# Altium footprint library robby.PcbLib: 21 footprints (part 1 of 2)
Each footprint in its own frame and in the unit in brackets; x right, y up, seen from the top. Pads: shape width x height; smd on the part's side, far side on the other; paste and mask are expansions set on the pad; w line width, h text height; cw(c..) or ccw(c..) is an arc to the next point about the centre after c.
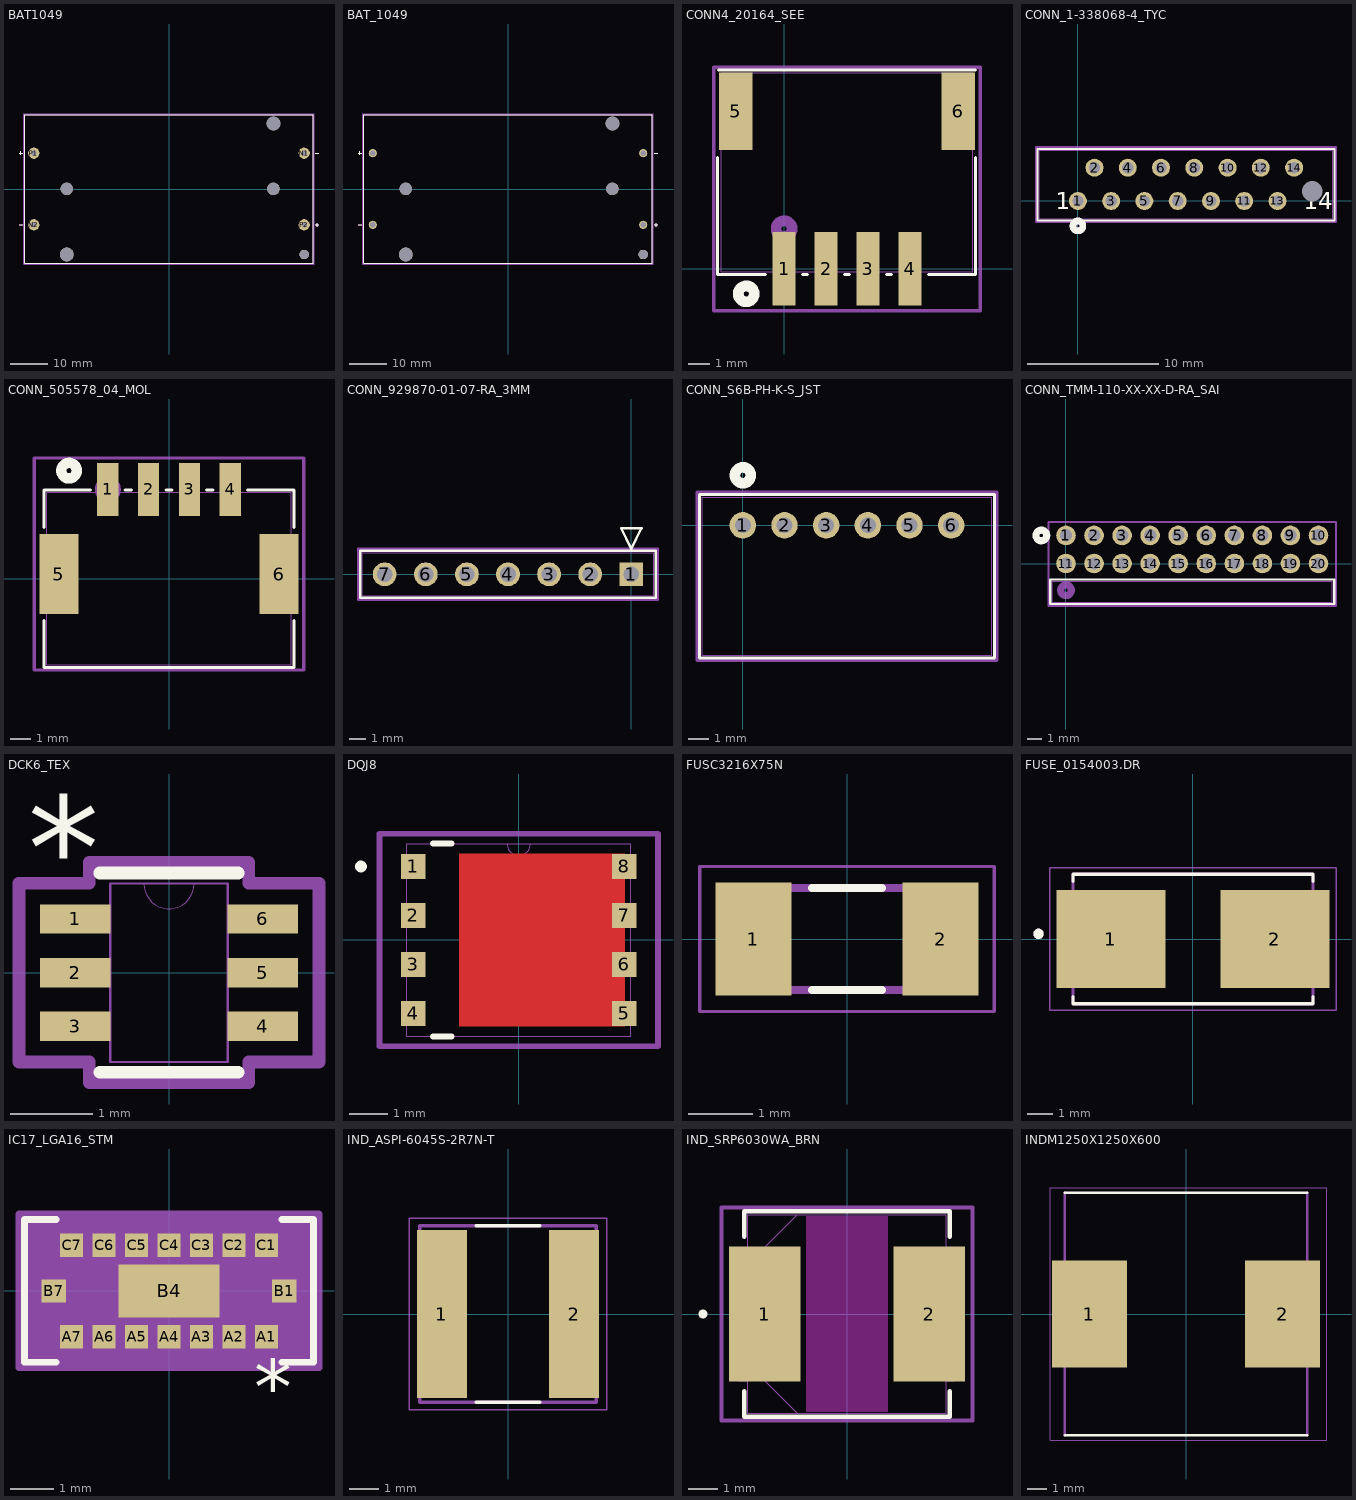
[diagram p0: the footprints below, top view; thin cyan lines are the x and y axes]

## BAT1049 [mm]
height 15.1
pads (9):
  round 3 hole 1.45: N1(36.11,9.565) N2(-36.11,-9.565) P1(-36.11,9.565) P2(36.11,-9.565)
  round 3.68 hole 3.68 unplated: ""(-27.31,-17.5) ""(27.89,17.5)
  round 3.31 hole 3.31 unplated: ""(-27.31,0.015) ""(27.89,0.015)
  round 2.51 hole 2.51 unplated: ""(36.11,-17.5)
Top Overlay:
  lines w0.127: -40.065,-9.565 -39.065,-9.565 ; -40.065,9.605 -39.065,9.605 ; -39.565,9.105 -39.565,10.105 ; 39.065,-9.605 40.065,-9.605 ; 39.065,9.565 40.065,9.565 ; 39.565,-10.105 39.565,-9.105 ; -38.53,-19.89 38.53,-19.89 38.53,19.89 -38.53,19.89 -38.53,-19.89
Mechanical 13:
  lines w0.127: -40.065,-9.565 -39.065,-9.565 ; -40.065,9.605 -39.065,9.605 ; -39.565,9.105 -39.565,10.105 ; 39.065,-9.605 40.065,-9.605 ; 39.065,9.565 40.065,9.565 ; 39.565,-10.105 39.565,-9.105 ; -38.53,-19.89 38.53,-19.89 38.53,19.89 -38.53,19.89 -38.53,-19.89
Mechanical 15:
  lines w0.05: -38.78,-20.14 38.78,-20.14 38.78,20.14 -38.78,20.14 -38.78,-20.14
3D body "step_temp.STEP": height 14.91, standoff -3.55, extent -38.2,-19.888 38.856,19.888

## BAT_1049 [mm]
height 15.1
pads (9):
  round 2.175 hole 1.45: N1(36.11,9.565) N2(-36.11,-9.565) P1(-36.11,9.565) P2(36.11,-9.565)
  round 3.68 hole 3.68 unplated: ""(-27.31,-17.5) ""(27.89,17.5)
  round 3.31 hole 3.31 unplated: ""(-27.31,0.015) ""(27.89,0.015)
  round 2.51 hole 2.51 unplated: ""(36.11,-17.5)
Top Overlay:
  lines w0.127: -40.065,-9.565 -39.065,-9.565 ; -40.065,9.605 -39.065,9.605 ; -39.565,9.105 -39.565,10.105 ; 39.065,-9.605 40.065,-9.605 ; 39.065,9.565 40.065,9.565 ; 39.565,-10.105 39.565,-9.105 ; -38.53,-19.89 38.53,-19.89 38.53,19.89 -38.53,19.89 -38.53,-19.89
Mechanical 13:
  lines w0.127: -40.065,-9.565 -39.065,-9.565 ; -40.065,9.605 -39.065,9.605 ; -39.565,9.105 -39.565,10.105 ; 39.065,-9.605 40.065,-9.605 ; 39.065,9.565 40.065,9.565 ; 39.565,-10.105 39.565,-9.105 ; -38.53,-19.89 38.53,-19.89 38.53,19.89 -38.53,19.89 -38.53,-19.89
Mechanical 15:
  lines w0.05: -38.78,-20.14 38.78,-20.14 38.78,20.14 -38.78,20.14 -38.78,-20.14
3D body "step_temp.STEP": height 14.91, standoff -3.55, extent -38.2,-19.888 38.856,19.888

## CONN4_20164_SEE [mil]
pads (6):
  rect 43x138 smd paste+0: 1(0,0) 2(78.74,0) 3(157.48,0) 4(236.22,0)
  rect 63x145.67 smd paste-72.83: 5(-90.55,295.28) 6(326.77,295.28)
Top Overlay:
  circle w20: c-70.87,-47.24 r15
  lines w6: -125.14,208.66 -125.14,-10.89 -34.6,-10.89 ; -122.89,373.11 359.11,373.11 ; 34.6,-10.89 44.14,-10.89 ; 113.34,-10.89 122.88,-10.89 ; 192.08,-10.89 201.62,-10.89 ; 270.82,-10.89 359.11,-10.89 359.11,208.66
Mechanical 13:
  circle w20: c0,75 r15
  lines w1: -117.89,-5.89 354.11,-5.89 354.11,368.11 -117.89,368.11 -117.89,-5.89
Mechanical 15:
  lines w6: -132.05,-79 -132.05,378.11 368.27,378.11 368.27,-79 -132.05,-79
3D body "114020164.STEP": height 214.57, standoff 0, extent -118.11,-37.4 354.33,368.11

## CONN_1-338068-4_TYC [mil]
pads (15):
  round 54 / inner round 60 / far side round 54 hole 34 paste-99999 mask-27: 1(0,0) 2(50,100) 3(100,0) 4(150,100) 5(200,0) 6(250,100) 7(300,0) 8(350,100) 9(400,0) 10(450,100) 11(500,0) 12(550,100) 13(600,0) 14(650,100)
  round 59.06 hole 62 unplated paste-99999 mask-41: ""(705,29)
Top Overlay:
  circle w20: c0,-75 r15
  lines w6: -121,-58 -121,157 771,157 771,-58 -121,-58
  text "14" at 679,-25 h50
  text "14" at 679,-25 h50
  text "1" at -66.5,-25 h50
  text "1" at -66.5,-25 h50
Bottom Overlay:
  circle w20: c0,-75 r15
  text "14" at 729,-25 h50
  text "14" at 729,-25 h50
  text "1" at -41.5,-25 h50
  text "1" at -41.5,-25 h50
Mechanical 13:
  circle w20: c0,-75 r15
  lines w1: -116,-53 -116,152 766,152 766,-53 -116,-53
  text "14" at 679,-25 h50
  text "14" at 679,-25 h50
  text "1" at -66.5,-25 h50
  text "1" at -66.5,-25 h50
Mechanical 15:
  lines w6: -126,-63 776,-63 776,162 -126,162 -126,-63
3D body "c-1-338068-4-f-3d.stp": height 157.48, standoff -122.05, extent -116.14,-47.24 759.84,149.61

## CONN_505578_04_MOL [mil]
pads (6):
  rect 41x102 smd: 1(-118.11,172.41) 2(-39.37,172.41) 3(39.37,172.41) 4(118.11,172.41)
  rect 75x154 smd: 5(-212.6,9.02) 6(212.6,9.02)
Top Overlay:
  circle w20: c-192.91,208.66 r15
  lines w6: -241,-81.08 -241,-171.5 241,-171.5 241,-81.08 ; -241,99.12 -241,171.5 -151.71,171.5 ; -84.51,171.5 -72.97,171.5 ; -5.77,171.5 5.77,171.5 ; 72.97,171.5 84.51,171.5 ; 151.71,171.5 241,171.5 241,99.12
Mechanical 13:
  circle w20: c-118.11,172.41 r15
  lines w1: -236,-166.5 -236,166.5 236,166.5 236,-166.5 -236,-166.5
Mechanical 15:
  lines w6: -260.1,-176.5 260.1,-176.5 260.1,233.41 -260.1,233.41 -260.1,-176.5
3D body "5055780471.stp": height 232.28, standoff 0, extent -236.44,-166.5 236,205.55

## CONN_929870-01-07-RA_3MM [mil]
pads (7):
  rect 58x58 / inner round 60 / far side rect 58x58 hole 38 paste-99999 mask+0: 1(0,0)
  round 58 / inner round 60 / far side round 58 hole 38 paste-99999 mask+0: 2(-100,0) 3(-200,0) 4(-300,0) 5(-400,0) 6(-500,0) 7(-600,0)
Top Overlay:
  lines w6: -660,-57.5 60,-57.5 60,57.5 -660,57.5 -660,-57.5 ; -25,112.5 0,62.5 25,112.5 -25,112.5
Mechanical 13:
  lines w1: -655,-52.5 55,-52.5 55,52.5 -655,52.5 -655,-52.5 ; -25,112.5 0,62.5 25,112.5 -25,112.5
Mechanical 15:
  lines w6: -665,-62.5 -665,62.5 65,62.5 65,-62.5 -665,-62.5
3D body: height 149.61, standoff 0, extent -655,-52.5 55,52.5

## CONN_S6B-PH-K-S_JST [mil]
pads (6):
  round 50 / inner round 60 / far side round 50 hole 30 paste-99999 mask+0: 1(0,0) 2(78.74,0) 3(157.48,0) 4(236.22,0) 5(314.96,0) 6(393.7,0)
Top Overlay:
  circle w20: c0,94.49 r15
  lines w6: -81.65,-250.85 -81.65,58.15 475.35,58.15 475.35,-250.85 -81.65,-250.85
Mechanical 13:
  lines w1: -76.65,-245.85 -76.65,53.15 470.35,53.15 470.35,-245.85 -76.65,-245.85
Mechanical 15:
  lines w6: -86.65,-255.85 480.35,-255.85 480.35,63.15 -86.65,63.15 -86.65,-255.85
3D body "S6B-PH-K-S-LF--SN---3DModel-STEP-56544.STEP": height 188.98, standoff -133.19, extent -76.77,-248.03 470.47,51.18

## CONN_TMM-110-XX-XX-D-RA_SAI [mil]
pads (20):
  round 55 / inner round 60 / far side round 55 hole 35 paste-99999 mask+0: 1(0,78.74) 2(78.74,78.74) 3(157.48,78.74) 4(236.22,78.74) 5(314.96,78.74) 6(393.7,78.74) 7(472.44,78.74) 8(551.18,78.74) 9(629.92,78.74) 10(708.66,78.74) 11(0,0) 12(78.74,0) 13(157.48,0) 14(236.22,0) 15(314.96,0) 16(393.7,0) 17(472.44,0) 18(551.18,0) 19(629.92,0) 20(708.66,0)
Top Overlay:
  circle w20: c-69.17,78.74 r15
  lines w6: -44.17,-114 752.83,-114 752.83,-45 -44.17,-45 -44.17,-114
Bottom Overlay:
  circle w20: c-69.17,78.74 r15
Mechanical 13:
  circle w20: c0,-75 r15
  lines w1: -39.17,-109 747.83,-109 747.83,-50 -39.17,-50 -39.17,-109
Mechanical 15:
  lines w6: -49.17,-119 -49.17,116.24 757.83,116.24 757.83,-119 -49.17,-119
3D body "tmm-110-01-l-d-ra.stp": height 156.22, standoff -118.78, extent -39.37,-235.24 748.03,88.46

## DCK6_TEX [mil]
pads (6):
  rect 33.5x14 smd paste+0 mask+0: 1(-44.75,25.59) 2(-44.75,0) 3(-44.75,-25.59) 4(44.75,-25.59) 5(44.75,0) 6(44.75,25.59)
Top Overlay:
  lines w6: -33,-47.5 33,-47.5 ; -33,47.5 33,47.5
  text "*" at -67.25,34.59 h50
Mechanical 13:
  lines w0: -12,42.5 ccw(c0,42.5) 12,42.5
  lines w1: -47.5,-31.59 -28,-31.59 -28,-19.59 -47.5,-19.59 -47.5,-31.59 ; -47.5,-6 -28,-6 -28,6 -47.5,6 -47.5,-6 ; -47.5,19.59 -28,19.59 -28,31.59 -47.5,31.59 -47.5,19.59 ; -28,-42.5 -28,42.5 28,42.5 28,-42.5 -28,-42.5 ; 28,-31.59 47.5,-31.59 47.5,-19.59 28,-19.59 28,-31.59 ; 28,-6 47.5,-6 47.5,6 28,6 28,-6 ; 28,19.59 47.5,19.59 47.5,31.59 28,31.59 28,19.59
  text "*" at -25.5,-10.5 h50
Mechanical 15:
  lines w6: -71.5,-42.59 -38,-42.59 -38,-52.5 38,-52.5 38,-42.59 71.5,-42.59 71.5,42.59 38,42.59 38,52.5 -38,52.5 -38,42.59 -71.5,42.59 -71.5,-42.59
3D body "DCK6_TEX.step": height 43.11, standoff 0, extent -47.52,-42.52 47.52,42.52

## DQJ8 [mm]
pads (8):
  rect 0.63x0.65 smd paste-0.1 mask-0.33: 1(-2.735,1.905) 2(-2.735,0.635) 3(-2.735,-0.635) 4(-2.735,-1.905) 5(2.735,-1.905) 6(2.735,-0.635) 7(2.735,0.635) 8(2.735,1.905)
Top Layer:
  region: 2.745,0 2.745,-2.23 -1.545,-2.23 -1.545,0
  region: 2.745,0 2.745,2.23 -1.545,2.23 -1.545,0
Top Overlay:
  circle w0.152: c-4.091,1.905 r0.076
  lines w0.152: -2.226,-2.5 -1.74,-2.5 ; -2.226,2.5 -1.74,2.5
Top Paste:
  region: -0.18,-1.88 -0.18,-0.31 -1.415,-0.31 -1.415,-1.88
  region: -0.18,1.88 -0.18,0.31 -1.415,0.31 -1.415,1.88
  region: 0.32,1.88 0.32,0.31 1.905,0.31 1.905,1.88
  region: 0.32,-1.88 0.32,-0.31 1.905,-0.31 1.905,-1.88
Top Solder:
  region: 2.745,0 2.745,-2.23 -1.545,-2.23 -1.545,0
  region: 2.745,0 2.745,2.23 -1.545,2.23 -1.545,0
  region: 3.12,2.3 2.35,2.3 2.35,1.51 3.12,1.51
  region: 3.12,1.03 2.35,1.03 2.35,0.24 3.12,0.24
  region: 3.12,-0.24 2.35,-0.24 2.35,-1.03 3.12,-1.03
  region: 3.12,-1.51 2.35,-1.51 2.35,-2.3 3.12,-2.3
  region: -2.35,-1.51 -3.12,-1.51 -3.12,-2.3 -2.35,-2.3
  region: -2.35,-0.24 -3.12,-0.24 -3.12,-1.03 -2.35,-1.03
  region: -2.35,1.03 -3.12,1.03 -3.12,0.24 -2.35,0.24
  region: -2.35,2.3 -3.12,2.3 -3.12,1.51 -2.35,1.51
Mechanical 13:
  circle w0: c-4.091,1.905 r0.076
  lines w0: -0.305,2.5 ccw(c0,2.5) 0.305,2.5
  lines w0.025: -2.9,-2.5 -2.9,2.5 2.9,2.5 2.9,-2.5 -2.9,-2.5
Mechanical 15:
  lines w0.152: -3.609,-2.754 3.609,-2.754 3.609,2.754 -3.609,2.754 -3.609,-2.754
3D body "DQJ0008A.stp": height 1.05, standoff 0, extent -3,-2.55 3,2.55

## FUSC3216X75N [mm]
pads (2):
  rect 1.19x1.77 smd: 1(-1.465,0) 2(1.465,0)
Top Overlay:
  lines w0.127: -0.55,-0.8 0.55,-0.8 ; -0.55,0.8 0.55,0.8
Mechanical 13:
  lines w0.127: -1.6,-0.8 1.6,-0.8 1.6,0.8 -1.6,0.8 -1.6,-0.8
Mechanical 15:
  lines w0.05: -2.308,-1.135 2.308,-1.135 2.308,1.135 -2.308,1.135 -2.308,-1.135
3D body "step_temp.STEP": height 0.75, standoff 0, extent -1.6,-0.8 1.6,0.8

## FUSE_0154003.DR [mil]
height 150
pads (2):
  rect 167x150 smd: 1(-125.5,0) 2(125.5,0)
Top Overlay:
  circle w7.87: c-236.22,7.87 r3.94
  lines w5: -183.66,-87.99 -183.66,-99.02 183.66,-99.02 183.66,-87.99 ; -183.66,87.99 -183.66,99.02 183.66,99.02 183.66,87.99
Mechanical 13:
  circle w7.87: c-236.22,7.87 r3.94
  lines w5: -183.66,-99.02 -183.66,99.02 183.66,99.02 183.66,-99.02 -183.66,-99.02
Mechanical 15:
  lines w1.97: -218.84,-108.86 218.84,-108.86 218.84,108.86 -218.84,108.86 -218.84,-108.86
3D body "step_temp.STEP": height 150, standoff 0, extent -191.54,-99.02 191.54,99.02

## IC17_LGA16_STM [mm]
pads (17):
  rect 0.53x0.545 smd paste+0 mask+0: A1(2.25,-1.058) A2(1.5,-1.058) A3(0.75,-1.058) A4(0,-1.058) A5(-0.75,-1.058) A6(-1.5,-1.058) A7(-2.25,-1.058) C1(2.25,1.058) C2(1.5,1.058) C3(0.75,1.058) C4(0,1.058) C5(-0.75,1.058) C6(-1.5,1.058) C7(-2.25,1.058)
  rect 0.565x0.53 smd paste+0 mask+0: B1(2.668,0) B7(-2.668,0)
  rect 2.346x1.23 smd paste+0 mask+0: B4(0,0)
Top Overlay:
  lines w0.152: -2.603,-1.651 -3.34,-1.651 -3.34,1.651 -2.603,1.651 ; 2.603,-1.651 3.34,-1.651 3.34,1.651 2.603,1.651
  text "*" at 1.968,-2.845 h1.27
Mechanical 13:
  lines w0.025: -3.213,0.254 -1.943,1.524 ; -3.213,-1.524 -3.213,1.524 3.213,1.524 3.213,-1.524 -3.213,-1.524
  text "*" at 2.654,-1.702 h1.27
Mechanical 15:
  region: -2.769,-1.778 -3.467,-1.778 -3.467,-0.519 -3.467,0.519 -3.467,1.778 -2.769,1.778 2.769,1.778 3.467,1.778 3.467,0.519 3.467,-0.519 3.467,-1.778 2.769,-1.778
  lines w0.152: -3.467,-1.778 -3.467,-0.519 -3.467,0.519 -3.467,1.778 -2.769,1.778 2.769,1.778 3.467,1.778 3.467,0.519 3.467,-0.519 3.467,-1.778 2.769,-1.778 -2.769,-1.778 -3.467,-1.778
3D body "VL53L8 3D Model.step": height 4.75, standoff 0, extent -3.859,-2.199 4.338,1.999

## IND_ASPI-6045S-2R7N-T [mm]
height 4.5
pads (2):
  rect 1.7x5.7 smd: 1(-2.25,0) 2(2.25,0)
Top Overlay:
  lines w0.127: -1.08,-3 1.08,-3 ; -1.08,3 1.08,3
Mechanical 13:
  lines w0.127: -3,-3 -3,3 3,3 3,-3 -3,-3
Mechanical 15:
  lines w0.05: -3.35,-3.25 -3.35,3.25 3.35,3.25 3.35,-3.25 -3.35,-3.25
3D body "ASPI-6045S.STEP": height 4.5, standoff 0, extent -3,-3 3,3

## IND_SRP6030WA_BRN [mil]
pads (2):
  rect 96.78x182.97 smd paste+0 mask+0: 1(-111.39,0) 2(111.39,0)
Top Overlay:
  circle w6: c-194.78,0 r3
  lines w6: -139,-104.58 -139,-139 139,-139 139,-104.58 ; -139,104.58 -139,139 139,139 139,104.58
Keep-Out Layer:
  region: -55.12,-132 -55.12,132 55.12,132 55.12,-132
  region: -55.12,-132 -55.12,132 55.12,132 55.12,-132
Mechanical 13:
  circle w0: c-111.39,0 r3
  lines w1: -134,-67 -67,-134 ; -134,67 -67,134 ; -146,-90.5 -146,90.5 -134,90.5 -134,-90.5 -146,-90.5 ; -134,-134 134,-134 134,134 -134,134 -134,-134 ; 134,-90.5 134,90.5 146,90.5 146,-90.5 134,-90.5
Mechanical 15:
  lines w6: -169.78,-144 -169.78,144 169.78,144 169.78,-144 -169.78,-144

## INDM1250X1250X600 [mm]
pads (2):
  rect 3.85x5.5 smd: 1(-4.975,0) 2(4.975,0)
Top Overlay:
  lines w0.127: -6.25,-6.25 6.25,-6.25 ; -6.25,6.25 6.25,6.25
Mechanical 13:
  lines w0.127: -6.25,-6.25 -6.25,6.25 ; 6.25,-6.25 6.25,6.25
Mechanical 15:
  lines w0.05: -7,-6.5 7.25,-6.5 7.25,6.5 -2.25,6.5 -3,6.5 -7,6.5 -7,-6.5
3D body "DR125-6R8-R.STEP": height 6, standoff 0, extent -6.25,-6.25 6.25,6.25